# Altium footprint library AL_ELEC_SMD_D.PcbLib: 2 footprints
Each footprint in its own frame and in the unit in brackets; x right, y up, seen from the top. Pads: shape width x height; smd on the part's side, far side on the other; paste and mask are expansions set on the pad; w line width, h text height; cw(c..) or ccw(c..) is an arc to the next point about the centre after c.
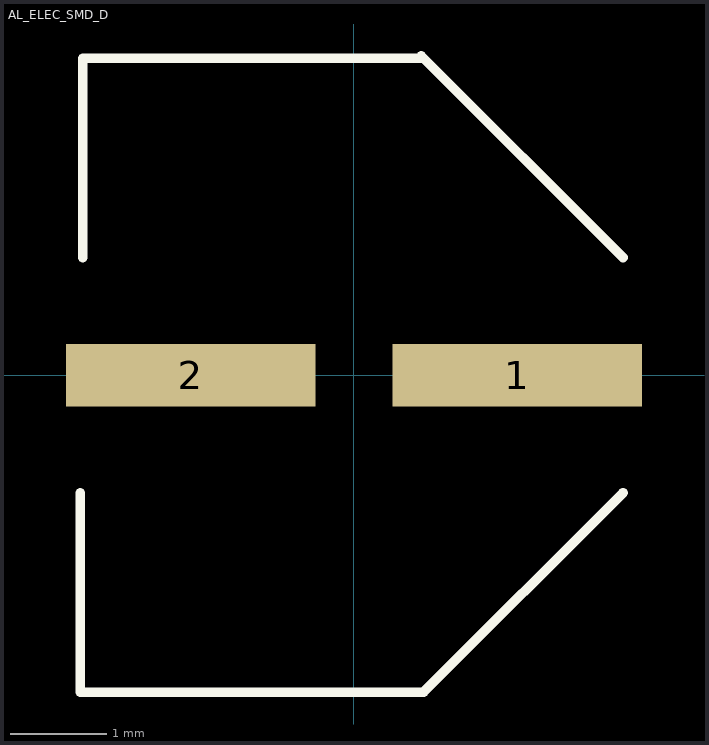
[diagram p0: the footprints below, top view; thin cyan lines are the x and y axes]

## AL_ELEC_SMD_D [mm]
pads (2):
  rect 2.6x0.65 smd: 1(1.7,0) 2(-1.7,0)
Top Overlay:
  lines w0.1: -2.85,-1.225 -2.85,-3.3 0.725,-3.3 2.8,-1.225 ; -2.825,1.225 -2.825,3.3 0.7,3.3 0.7,3.325 2.8,1.225

## PCBComponent_1 [mm]